# EAGLE library part ADAFRUIT_PINHD-1X8 (library Lemming v3)
PIN HEADER
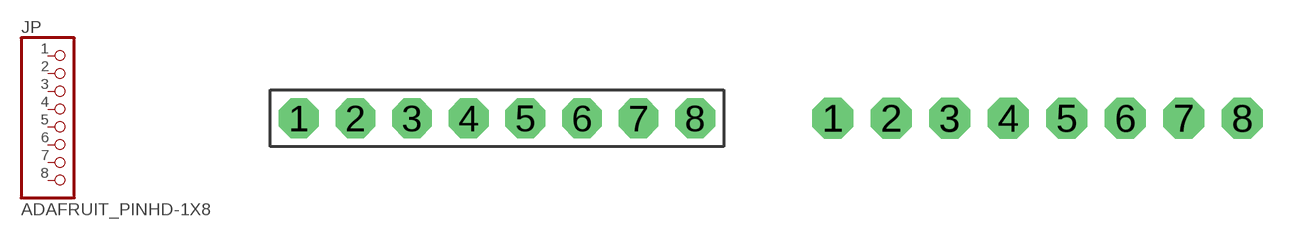
[diagram p1: symbol with the pads of ADAFRUIT_1X08-BIG; footprints ADAFRUIT_1X08-BIG, ADAFRUIT_1X08-CLEANBIG]

Designator prefix JP

## ADAFRUIT_PINHD-1X8BIG  [ADAFRUIT_1X08-BIG]
1  1  pas
2  2  pas
3  3  pas
4  4  pas
5  5  pas
6  6  pas
7  7  pas
8  8  pas

## ADAFRUIT_PINHD-1X8CLEANBIG  [ADAFRUIT_1X08-CLEANBIG]
Pads as for ADAFRUIT_1X08-BIG

## ADAFRUIT_PINHD-1X8LOCK  [ADAFRUIT_1X08-LOCK]
Pads as for ADAFRUIT_1X08-BIG

## Footprint ADAFRUIT_1X08-BIG (pad centres in mm)
drill 1.016 pad 1.778 octagon: 1 -8.89,0; 2 -6.35,0; 3 -3.81,0; 4 -1.27,0; 5 1.27,0; 6 3.81,0; 7 6.35,0; 8 8.89,0

## Footprint ADAFRUIT_1X08-CLEANBIG (pad centres in mm)
drill 1.016 pad 1.778 octagon: 1 -8.89,0; 2 -6.35,0; 3 -3.81,0; 4 -1.27,0; 5 1.27,0; 6 3.81,0; 7 6.35,0; 8 8.89,0

## Footprint ADAFRUIT_1X08-LOCK (pad centres in mm)
drill 1.016 pad 1.778 octagon: 1 -8.89,0.127; 2 -6.35,-0.127; 3 -3.81,0.127; 4 -1.27,-0.127; 5 1.27,0.127; 6 3.81,-0.127; 7 6.35,0.127; 8 8.89,-0.127